# Altium schematic symbol library Connector.SchLib: 36 symbols
Pins are listed as number, name and electrical type; pins without a type are passive.

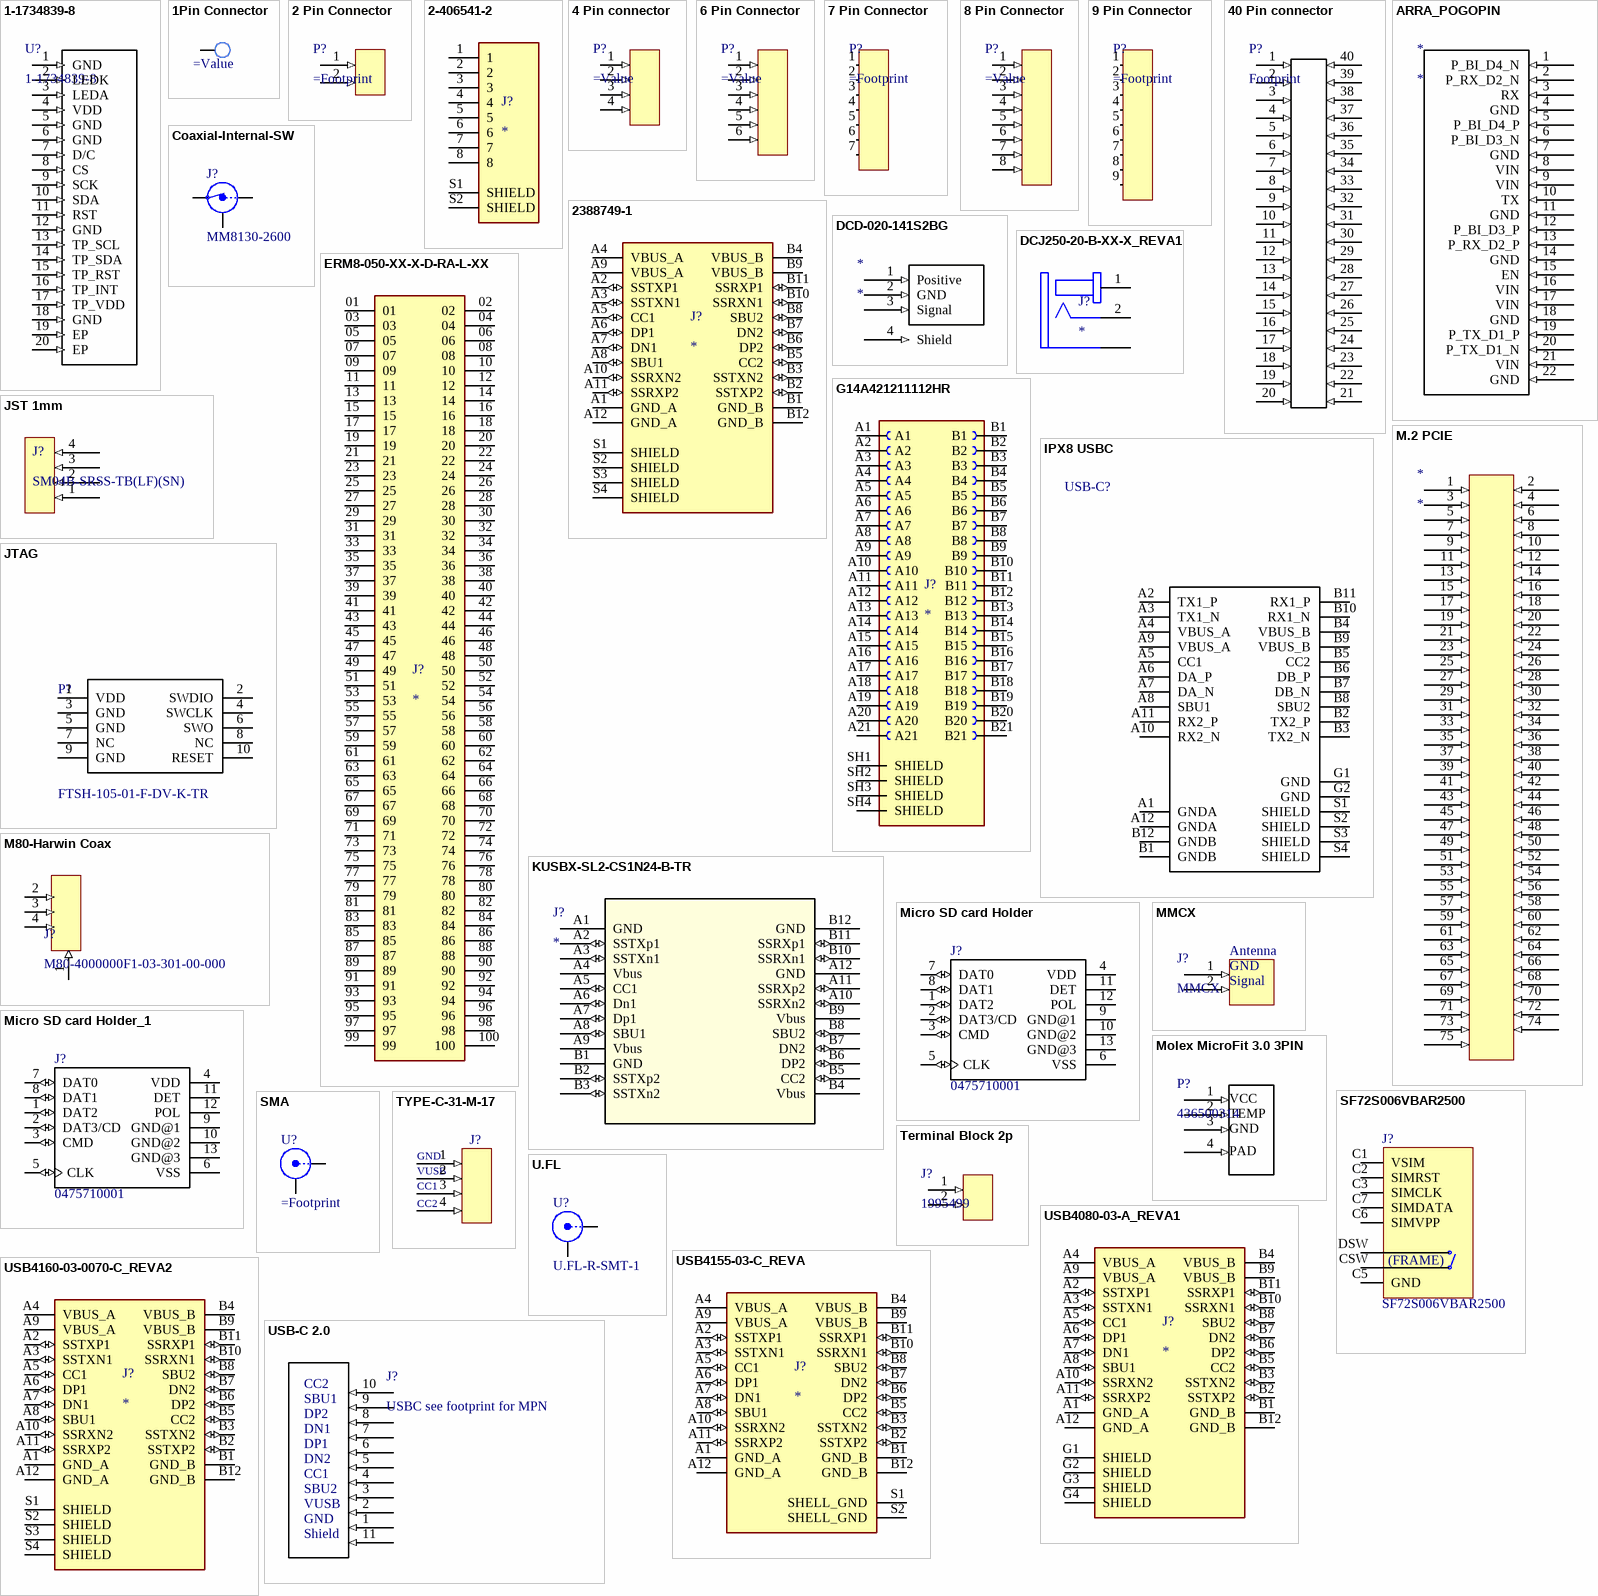
[diagram p0: symbols 1-1734839-8 to USB-C 2.0]

## 1-1734839-8
designator U?
FPC Connector 18pin
footprint 1-1734839-8 (Footprint not found)
footprint P169H002-CTP (FPC Connector and display)
pins: 1 GND (in), 2 LEDK (in), 3 LEDA (in), 4 VDD (in), 5 GND (in), 6 GND (in), 7 D/C (in), 8 CS (in), 9 SCK (in), 10 SDA (in), 11 RST (in), 12 GND (in), 13 TP_SCL (in), 14 TP_SDA (in), 15 TP_RST (in), 16 TP_INT (in), 17 TP_VDD (in), 18 GND (in), 19 EP (in), 20 EP (in)

## 1Pin Connector
designator P?
Check footprint for MPN
footprint 2032631334 (Molex 3.4mm mating pin 14mm)
footprint 2032631434 (Molex 3.4mm mating pin 12mm)
footprint H2182-05 (Male Vertical Throughboard Terminal Pin, Ø1.75mm 8.1mm)
footprint 2032634285 (8mm 200A pin)
footprint 2043180001 (8mm 200A pin)
footprint 2043180018
footprint 2043180006 (6mm)
footprint 2032630126 (Molex 6mm mating pin 14mm)
footprint 10-729398-241 (Amphenol Pin connector 2.4mm pins)
footprint 10-737620-001 (Amphenol single connector 5.7mm pins)
pins: 1

## 2 Pin Connector
designator P?
Yamaichi 12x2p
footprint YCP-TWD12ACX-02FPKZX-000X
footprint YCP-TWD09ACX-02FPGZX-000X
footprint AT15-2P-BM04 (2 POSITION STRAIGHT FLANGE MOUNT PCB RECEPTACLE, POTTED, TIN PLATED CONTACTS INCLUDED. COMPARABLE TO PN# DT15-2P-P010)
pins: 1 (in), 2 (in)

## 2-406541-2
designator J?
Conn RJ 45 F 8 POS 2.04mm Solder RA Thru-Hole 8 Terminal 1 Port Cat 5 Tray; MP: 2-406541-2; MF: TE Connectivity; Value: *; SnapEDA_Link: https://www.snapeda.com/parts/2-406541-2/TE%20Connectivity/view-part/2383013/?ref=snap; EU_RoHS_Compliance: Compliant; Price: None; Package: None; Check_prices: https://www.snapeda.com/parts/2-406541-2/TE%20Connectivity/view-part/2383013/?ref=eda; Purchase-URL: https://pricing.snapeda.com/search/part/2-406541-2/?ref=eda; Availability: In Stock
footprint TE_2-406541-2
footprint METZ_AJP92A8813 (Footprint not found)
pins: 1, 2, 3, 4, 5, 6, 7, 8, S1 SHIELD, S2 SHIELD

## 4 Pin connector
designator P?
Generic 4 pin connector, see footprint for MPN
footprint YCP-TWD09ACX-04FPEZX-000X
footprint WB06-DA041-K06 (Footprint not found)
footprint c-770149-1-c-3d (4 Pin drive power SMD)
footprint B04B-JWPF-SK-R (JST 2x5 Automotive)
footprint HCzz0015-4 (1.25mm vertical 4p picoblade)
pins: 1 (in), 2 (in), 3 (in), 4 (in)

## 6 Pin Connector
designator P?
Generic 6 pin connector, see footprint for MPN
footprint YCP-TWD09ACX-06FPCYX-000X
footprint B06B-JWPF-SK-R (JST 2x5 Automotive)
pins: 1 (in), 2 (in), 3 (in), 4 (in), 5 (in), 6 (in)

## 7 Pin Connector
designator P?
Yamaichi XXx7p, 12mm or 9mm T series connectors
footprint YCP-TWD12ACX-07FPEZX-000X
footprint YCP-TWD09ACX-07FPCYX-000X
pins: 1 (in), 2 (in), 3 (in), 4 (in), 5 (in), 6 (in), 7 (in)

## 8 Pin Connector
designator P?
Generic 8 pin connector, see footprint for MPN
footprint YCP-TWD12ACX-E8FPCYX-000X
footprint YCP-TWD12ACX-08FPEZX-000X
footprint B08B-JWPF-SK-R - duplicate (JST 2x5 Automotive)
footprint 5050040812 (0.8mm height mated board to board connector)
footprint HX 1.25-8PIN WSTP (https://www.lcsc.com/product-detail/Wire-To-Board-Connector_hanxia-HX-1-25-8PIN-WSTP_C19270006.html?s_z=n_jst%208pin)
footprint MXSH-1.0-08P-LT1-0-A (1mm 8 pin horisontal connector)
footprint MXSH-1.0-08P-WT1-0-A (1mm 8 pin horisontal connector)
pins: 1 (in), 2 (in), 3 (in), 4 (in), 5 (in), 6 (in), 7 (in), 8 (in)

## 9 Pin Connector
designator P?
Yamaichi 9x4p
footprint YCP-TWD09ACX-09FPCYX-000X
pins: 1 (in), 2 (in), 3 (in), 4 (in), 5 (in), 6 (in), 7 (in), 8 (in), 9 (in)

## 40 Pin connector
designator P?, comment Footprint
See footprint for MPN
footprint MX23A40NF1 (Footprint not found)
pins: 1 (in), 2 (in), 3 (in), 4 (in), 5 (in), 6 (in), 7 (in), 8 (in), 9 (in), 10 (in), 11 (in), 12 (in), 13 (in), 14 (in), 15 (in), 16 (in), 17 (in), 18 (in), 19 (in), 20 (in), 21 (in), 22 (in), 23 (in), 24 (in), 25 (in), 26 (in), 27 (in), 28 (in), 29 (in), 30 (in), 31 (in), 32 (in), 33 (in), 34 (in), 35 (in), 36 (in), 37 (in), 38 (in), 39 (in), 40 (in)

## 2388749-1
designator J?
USB-C (USB TYPE-C) USB 4.0 Receptacle Connector 24 Position Surface Mount, Right Angle; Through Hole; MF: TE Connectivity; MP: 2388749-1; Value: *; SnapEDA_Link: https://www.snapeda.com/parts/2388749-1/TE+Connectivity/view-part/?ref=snap; Purchase-URL: https://pricing.snapeda.com/search/part/2388749-1/?ref=eda; Availability: In Stock; Price: None; Package: None; Check_prices: https://www.snapeda.com/parts/2388749-1/TE+Connectivity/view-part/?ref=eda
footprint TE_2388749-1
footprint RJ45 footprint connections
pins: A1 GND_A (power), A2 SSTXP1 (io), A3 SSTXN1 (io), A4 VBUS_A (power), A5 CC1 (io), A6 DP1 (io), A7 DN1 (io), A8 SBU1 (io), A9 VBUS_A (power), A10 SSRXN2 (io), A11 SSRXP2 (io), A12 GND_A (power), B1 GND_B (power), B2 SSTXP2 (io), B3 SSTXN2 (io), B4 VBUS_B (power), B5 CC2 (io), B6 DP2 (io), B7 DN2 (io), B8 SBU2 (io), B9 VBUS_B (power), B10 SSRXN1 (io), B11 SSRXP1 (io), B12 GND_B (power), S1 SHIELD, S2 SHIELD, S3 SHIELD, S4 SHIELD

## ARRA_POGOPIN
designator *
footprint ARRA_POGOPIN (custom connector ARRA)
pins: 1 P_BI_D4_N (in), 2 P_RX_D2_N (in), 3 RX (in), 4 GND (in), 5 P_BI_D4_P (in), 6 P_BI_D3_N (in), 7 GND (in), 8 VIN (in), 9 VIN (in), 10 TX (in), 11 GND (in), 12 P_BI_D3_P (in), 13 P_RX_D2_P (in), 14 GND (in), 15 EN (in) "Enable", 16 VIN (in), 17 VIN (in), 18 GND (in), 19 P_TX_D1_P (in), 20 P_TX_D1_N (in), 21 VIN (in), 22 GND (in)

## Coaxial-Internal-SW
designator J?, comment MM8130-2600
Coaxial Connector with Switch; Manufacturer: Murata; Part number IPS: N.A.; Artikkelnr Noca: 55029011; Part Number: MM8130-2600; Manufacturer Part Number: MM8130-2600; LatestRevisionDate: 2014-04-24; Pin Count: 3; Publisher: Nordic Semiconductor; Published: 2014-04-24; Value: MM8130-2600; Note: *; Footprint Doc: COAXIAL-SWF; ComponentLink1URL: *; ComponentLink1Description: Datasheet; ComponentLink2URL: *; ComponentLink2Description: Supplier link; HelpURL: http://www.murata.com/products/catalog/pdf/o33e.pdf; Supplier 1: Digi-Key; Supplier Part Number 1: 490-4981-1-ND; Supplier 2: Mouser; Supplier Part Number 2: 81-MM8130-2600RA2
footprint COAXIAL-SWF
pins: 1 IN, 2 Shield, 3 OUT

## DCD-020-141S2BG
designator *
footprint DCD-020-141S2BG
footprint DCD-020-141S2BG - NO S
pins: 1 Positive (in), 2 GND (in), 3 Signal (in), 4 Shield (in)

## DCJ250-20-B-XX-X_REVA1
designator J?
Power Barrel Connector Jack 2.55mm ID (0.100), 5.50mm OD (0.217) Through Hole, Right Angle; MP: DCJ250-20-B-K1-A; MF: Global Connector Technology; Availability: Bad; Package: None; Check_prices: https://www.snapeda.com/parts/DCJ250-20-B-K1-A/Global%20Connector%20Technology/view-part/813035/?ref=eda; Price: None; SnapEDA_Link: https://www.snapeda.com/parts/DCJ250-20-B-K1-A/Global%20Connector%20Technology/view-part/813035/?ref=snap; Value: *
footprint GCT_DCJ250-20-B-XX-X_REVA1 (Footprint not found)
pins: 1, 2, 3_1 3, 3_2 3

## ERM8-050-XX-X-D-RA-L-XX
designator J?
100 Position Connector Header, Center Strip Contacts Surface Mount, Right Angle Gold; MF: Samtec; MP: ERM8-050-03-L-D-RA-L-TR; Purchase-URL: https://pricing.snapeda.com/search/part/ERM8-050-03-L-D-RA-L-TR/?ref=eda; Package: None; Availability: Bad; Value: *; Check_prices: https://www.snapeda.com/parts/ERM8-050-03-L-D-RA-L-TR/Samtec/view-part/3532294/?ref=eda; SnapEDA_Link: https://www.snapeda.com/parts/ERM8-050-03-L-D-RA-L-TR/Samtec/view-part/3532294/?ref=snap; Price: None
footprint SAMTEC_ERM8-050-XX-X-D-RA-L-XX
pins: 01, 02, 03, 04, 05, 06, 07, 08, 09, 10, 11, 12, 13, 14, 15, 16, 17, 18, 19, 20, 21, 22, 23, 24, 25, 26, 27, 28, 29, 30, 31, 32, 33, 34, 35, 36, 37, 38, 39, 40, 41, 42, 43, 44, 45, 46, 47, 48, 49, 50, 51, 52, 53, 54, 55, 56, 57, 58, 59, 60, 61, 62, 63, 64, 65, 66, 67, 68, 69, 70, 71, 72, 73, 74, 75, 76, 77, 78, 79, 80, 81, 82, 83, 84, 85, 86, 87, 88, 89, 90, 91, 92, 93, 94, 95, 96, 97, 98, 99, 100

## G14A421211112HR
designator J?
MF: Amphenol Commercial Products; MP: G14A421211112HR; Package: None; Price: None; Value: *; Availability: Unavailable
footprint AMPHENOL_G14A421211112HR
pins: A1, A2, A3, A4, A5, A6, A7, A8, A9, A10, A11, A12, A13, A14, A15, A16, A17, A18, A19, A20, A21, B1, B2, B3, B4, B5, B6, B7, B8, B9, B10, B11, B12, B13, B14, B15, B16, B17, B18, B19, B20, B21, SH1 SHIELD, SH2 SHIELD, SH3 SHIELD, SH4 SHIELD

## IPX8 USBC
designator USB-C?, comment 2305018-2  (value not drawn)
TYPE C Right Angle Sealable SMT IPX8 3.1 GEN 2 Wire to Board USB; MF: TE Connectivity; TE_purchase_URL: https://www.te.com/usa-en/product-2305018-2.html?te_bu=Cor&te_type=disp&te_campaign=seda_glo_cor-seda-global-disp-prtnr-fy19-seda-model-bom-cta_sma-317_1&elqCampaignId=32493; SnapEDA_Link: https://www.snapeda.com/parts/2305018-2/TE%20Connectivity%20AMP%20Connectors/view-part/?ref=snap; Availability: Unavailable; Package: None; Price: None; MP: 2305018-2; Value: *
footprint TE_2305018-2_2305018-2(Primary)
pins: A1 GNDA, A2 TX1_P, A3 TX1_N, A4 VBUS_A, A5 CC1, A6 DA_P, A7 DA_N, A8 SBU1, A9 VBUS_A, A10 RX2_N, A11 RX2_P, A12 GNDA, B1 GNDB, B2 TX2_P, B3 TX2_N, B4 VBUS_B, B5 CC2, B6 DB_P, B7 DB_N, B8 SBU2, B9 VBUS_B, B10 RX1_N, B11 RX1_P, B12 GNDB, G1 GND (power), G2 GND (power), S1 SHIELD (power), S2 SHIELD (power), S3 SHIELD (power), S4 SHIELD (power)

## JST 1mm
designator J?, comment SM04B-SRSS-TB(LF)(SN)
JST 4pin 1mm pitch; ComponentLink1Description: Digikey; ComponentLink1URL: https://www.digikey.com/product-detail/en/jst-sales-america-inc/SM04B-SRSS-TB-LF-SN/455-1804-1-ND/926875; ComponentLink2Description: Qwiic; ComponentLink2URL: https://www.sparkfun.com/products/14417; Supplier 1: Arrow; Supplier 2: Mouser; Supplier Part Number 1: SM04B-SRSS-TB(LF)(SN); Supplier Part Number 2: 474-PRT-14417
footprint jst 1mm
pins: 1 (in), 2 (in), 3 (in), 4 (in)

## JTAG
designator P?, comment FTSH-105-01-F-DV-K-TR
Pin Header 2x5, 1.27mm (50mil), SMD, Keying Shroud; Part Number: Pin Header 2x5 SMD, 1.27mm, KS; Manufacturer: W-CON; Manufacturer Part Number: 3132-10MS0BK00R1; Part number IPS: N.A.; Artikkelnr Noca: 55010009; Footprint Doc: HDR_2x5-SMD-1.27mm; LatestRevisionDate: 2016-04-21; Pin Count: 10; Publisher: Nordic Semiconductor; Published: 2016-01-22; Value: Pin Header 2x5, 1.27mm; Note: *; ComponentLink1URL: *; ComponentLink1Description: Datasheet; ComponentLink2URL: *; ComponentLink2Description: Supplier link; HelpURL: \\hizz\pro\app9717\Datasheet\connectores\W-CON\3132-XXMXXBK00XX.pdf; Supplier 1: Cabcon; Supplier Part Number 1: 3132-10MS0BK00R1; Supplier 2: Samtec; Supplier Part Number 2: FTSH-105-01-F-DV-K
footprint HDR_2x5-SMD-1.27mm-K_2
footprint TC2050-IDC-NLFP
footprint JTAG Pins 6 (TC2030-ALT-NL)
pins: 1 VDD, 2 SWDIO, 3 GND, 4 SWCLK, 5 GND, 6 SWO, 7 NC, 8 NC, 9 GND, 10 RESET

## KUSBX-SL2-CS1N24-B-TR
designator J?
No Description Available; Mfr_Name: KYCON, INC.; RefDes: RefDes; Type: Type
footprint KUSBX-SL2-CS1N24-B-TR_KYC
pins: A1 GND (power), A2 SSTXp1 (io), A3 SSTXn1 (io), A4 Vbus (power), A5 CC1 (io), A6 Dn1 (io), A7 Dp1 (io), A8 SBU1 (io), A9 Vbus (power), A10 SSRXn2 (io), A11 SSRXp2 (io), A12 GND (power), B1 GND (power), B2 SSTXp2 (io), B3 SSTXn2 (io), B4 Vbus (power), B5 CC2 (io), B6 DP2 (io), B7 DN2 (io), B8 SBU2 (io), B9 Vbus (power), B10 SSRXn1 (io), B11 SSRXp1 (io), B12 GND (power)

## M80-Harwin Coax
designator J?, comment M80-4000000F1-03-301-00-000
footprint M80-4000000F1-03-301-00-000 (Datamate harwin coax 3)
pins: 1 (in), 2 (in), 3 (in), 4 (in)

## M.2 PCIE
designator *
footprint M.2 PCIE
pins: 1 (in), 2 (in), 3 (in), 4 (in), 5 (in), 6 (in), 7 (in), 8 (in), 9 (in), 10 (in), 11 (in), 12 (in), 13 (in), 14 (in), 15 (in), 16 (in), 17 (in), 18 (in), 19 (in), 20 (in), 21 (in), 22 (in), 23 (in), 24 (in), 25 (in), 26 (in), 27 (in), 28 (in), 29 (in), 30 (in), 31 (in), 32 (in), 33 (in), 34 (in), 35 (in), 36 (in), 37 (in), 38 (in), 39 (in), 40 (in), 41 (in), 42 (in), 43 (in), 44 (in), 45 (in), 46 (in), 47 (in), 48 (in), 49 (in), 50 (in), 51 (in), 52 (in), 53 (in), 54 (in), 55 (in), 56 (in), 57 (in), 58 (in), 59 (in), 60 (in), 61 (in), 62 (in), 63 (in), 64 (in), 65 (in), 66 (in), 67 (in), 68 (in), 69 (in), 70 (in), 71 (in), 72 (in), 73 (in), 74 (in), 75 (in)

## Micro SD card Holder
designator J?, comment 0475710001
Micro SD card Holder / 9 _8 + 1_ Position Card Connector Secure Digital - microSDâ„¢ Surface Mount, Right Angle Gold; MF: Molex; SnapEDA_Link: https://www.snapeda.com/parts/0475710001/Molex/view-part/424368/?ref=snap; Availability: Unavailable; MP: 0475710001; Package: None; Price: None; Value: *; Supplier 1: Digi-Key; Supplier Part Number 1: WM9731CT-ND
footprint MOLEX_0475710001 (Footprint not found)
pins: 1 DAT2 (io), 2 DAT3/CD (io), 3 CMD (io), 4 VDD (power), 5 CLK (io), 6 VSS (power), 7 DAT0 (io), 8 DAT1 (io), 9 GND@1 (power), 10 GND@2 (power), 11 DET, 12 POL, 13 GND@3 (power)

## Micro SD card Holder_1
designator J?, comment 0475710001
Micro SD card Holder / 9 _8 + 1_ Position Card Connector Secure Digital - microSDâ„¢ Surface Mount, Right Angle Gold; MF: Molex; SnapEDA_Link: https://www.snapeda.com/parts/0475710001/Molex/view-part/424368/?ref=snap; Availability: Unavailable; MP: 0475710001; Package: None; Price: None; Value: *; Supplier 1: Digi-Key; Supplier Part Number 1: WM9731CT-ND
footprint MOLEX_0475710001 (Footprint not found)
pins: 1 DAT2 (io), 2 DAT3/CD (io), 3 CMD (io), 4 VDD (power), 5 CLK (io), 6 VSS (power), 7 DAT0 (io), 8 DAT1 (io), 9 GND@1 (power), 10 GND@2 (power), 11 DET, 12 POL, 13 GND@3 (power)

## MMCX
designator J?
85_MMCX-S50-0-55/119_OM; ComponentLink1Description: Datasheet; ComponentLink1URL: https://ecatalog.hubersuhner.com/media/documents/outline1/en/pdf/84021646; Supplier 1: Mouser; Supplier Part Number 1: 455-5MMCXS50055119OM
footprint MMCX
pins: 1 (in), 2 (in)
text: Antenna; GND; Signal

## Molex MicroFit 3.0 3PIN
designator P?, comment 436500314
Molex microfit SMD 3 pin 436500314
footprint MicroFit3.0 3PIN
pins: 1 (in), 2 (in), 3 (in), 4 (in)
text: VCC; TEMP; GND; PAD

## SF72S006VBAR2500
designator J?
n 8 (6 + 2) Position Card Connector NANO SIM Surface Mount, Right Angle Gold; Manufacturer: JAE; Artikkelnr Noca: N.A.; Part Number: SF72S006VBAR2500; Manufacturer Part Number: SF72S006VBAR2500; Footprint Doc: SF72S006VBAR2500; LatestRevisionDate: 2016-09-09; Pin Count: 8; Publisher: Nordic Semiconductor; Published: 2016-09-09; Value: SF72S006VBAR2500; Note: *; Part number IPS: N.A.; ComponentLink1URL: *; ComponentLink1Description: Datasheet; ComponentLink2URL: *; ComponentLink2Description: Supplier link; HelpURL: http://jae-connectors.com/en/pdf/MB-0282-1E_SF72.pdf; Supplier 1: Digi-Key; Supplier Part Number 1: 670-2799-1-ND; Supplier 2: Mouser; Supplier Part Number 2: 656-SF72S006VBAR2500
footprint SF72S006VBAR2500
pins: 0 GND hidden to GND, C1 VSIM, C2 SIMRST, C3 SIMCLK, C5 GND, C6 SIMVPP, C7 SIMDATA, CSW, DSW
text: (FRAME)

## SMA
designator U?
SMA, SMD version; Part Number: U.FL-R-SMT-1; Manufacturer: Hirose Electric Co Ltd; Value: U.FL-R-SMT-1; Artikkelnr Noca: N.A.; Manufacturer Part Number: U.FL-R-SMT-1; ComponentLink1URL: https://media.digikey.com/pdf/Data%20Sheets/Hirose%20PDFs/UFL%20Series.pdf; ComponentLink1Description: Datasheet; ComponentLink2URL: *; ComponentLink2Description: Supplier link; HelpURL: *; Footprint Doc: COAXIAL RF U.FL-R-SMT-1; LatestRevisionDate: 2018-05-07; Pin Count: 3; Publisher: Nordic Semiconductor; Published: 2018-05-07; Note: *; Supplier 1: Digi-Key; Supplier Part Number 1: H11891DKR-ND; Supplier 2: *; Supplier Part Number 2: *; Part number IPS: N.A.
footprint 292-CM (50 Ohm SMA 2.92 Jack, Compression Mount)
footprint SMP (SMP-MSLD-PCS-20)
pins: 1 X, 2 Y

## Terminal Block 2p
designator J?, comment 1995499
1952267‎ For mating, 1995499 for pcb connector
footprint 1995499 (Terminal block 2 pin)
pins: 1 (in), 2 (in)

## TYPE-C-31-M-17
designator J?  (value not drawn)
Usb C power connector; Manufacturer Part Number: TYPE-C-31-M-17
footprint TYPE-C-31-M-17
pins: 1 (in), 2 (in), 3 (in), 4 (in)
text: GND; VUSB; CC1; CC2

## U.FL
designator U?, comment U.FL-R-SMT-1
ONN U.FL RCPT STR 50 OHM SMD; Manufacturer: Hirose Electric Co Ltd; Artikkelnr Noca: N.A.; Part Number: U.FL-R-SMT-1; Manufacturer Part Number: U.FL-R-SMT-1; ComponentLink1URL: https://media.digikey.com/pdf/Data%20Sheets/Hirose%20PDFs/UFL%20Series.pdf; ComponentLink1Description: Datasheet; ComponentLink2URL: *; ComponentLink2Description: Supplier link; HelpURL: *; Footprint Doc: COAXIAL RF U.FL-R-SMT-1; LatestRevisionDate: 2018-05-07; Pin Count: 3; Publisher: Nordic Semiconductor; Published: 2018-05-07; Value: U.FL-R-SMT-1; Note: *; Supplier 1: Digi-Key; Supplier Part Number 1: H11891DKR-ND; Supplier 2: *; Supplier Part Number 2: *; Part number IPS: N.A.
footprint COAXIAL RF U.FL-R-SMT-1
pins: 1 X, 2 Y

## USB4080-03-A_REVA1
designator J?
USB-C (USB TYPE-C) USB 3.2 Gen 2 (USB 3.1 Gen 2, Superspeed + (USB 3.1)) Receptacle Connector 24 Position Surface Mount, Right Angle; Through Hole; MF: Global Connector Technology; MP: USB4080-03-A; Package: None; Price: None; Value: *; SnapEDA_Link: https://www.snapeda.com/parts/USB4080-03-A/Global+Connector+Technology/view-part/?ref=snap; Availability: In Stock; Check_prices: https://www.snapeda.com/parts/USB4080-03-A/Global+Connector+Technology/view-part/?ref=eda
footprint GCT_USB4080-03-A_REVA1
pins: A1 GND_A (power), A2 SSTXP1 (io), A3 SSTXN1 (io), A4 VBUS_A (power), A5 CC1 (io), A6 DP1 (io), A7 DN1 (io), A8 SBU1 (io), A9 VBUS_A (power), A10 SSRXN2 (io), A11 SSRXP2 (io), A12 GND_A (power), B1 GND_B (power), B2 SSTXP2 (io), B3 SSTXN2 (io), B4 VBUS_B (power), B5 CC2 (io), B6 DP2 (io), B7 DN2 (io), B8 SBU2 (io), B9 VBUS_B (power), B10 SSRXN1 (io), B11 SSRXP1 (io), B12 GND_B (power), G1 SHIELD, G2 SHIELD, G3 SHIELD, G4 SHIELD

## USB4155-03-C_REVA
designator J?
MP: USB4155-03-C_REVA; Package: None; Price: None; Availability: Unavailable; Value: *
footprint GCT_USB4155-03-C_REVA
pins: A1 GND_A (power), A2 SSTXP1 (io), A3 SSTXN1 (io), A4 VBUS_A (power), A5 CC1 (io), A6 DP1 (io), A7 DN1 (io), A8 SBU1 (io), A9 VBUS_A (power), A10 SSRXN2 (io), A11 SSRXP2 (io), A12 GND_A (power), B1 GND_B (power), B2 SSTXP2 (io), B3 SSTXN2 (io), B4 VBUS_B (power), B5 CC2 (io), B6 DP2 (io), B7 DN2 (io), B8 SBU2 (io), B9 VBUS_B (power), B10 SSRXN1 (io), B11 SSRXP1 (io), B12 GND_B (power), S1 SHELL_GND (power), S2 SHELL_GND (power)

## USB4160-03-0070-C_REVA2
designator J?
MP: USB4160-03-0070-C_REVA2; Price: None; Value: *; Package: None; Availability: Unavailable
footprint GCT_USB4160-03-0070-C_REVA2
pins: A1 GND_A (power), A2 SSTXP1 (io), A3 SSTXN1 (io), A4 VBUS_A (power), A5 CC1 (io), A6 DP1 (io), A7 DN1 (io), A8 SBU1 (io), A9 VBUS_A (power), A10 SSRXN2 (io), A11 SSRXP2 (io), A12 GND_A (power), B1 GND_B (power), B2 SSTXP2 (io), B3 SSTXN2 (io), B4 VBUS_B (power), B5 CC2 (io), B6 DP2 (io), B7 DN2 (io), B8 SBU2 (io), B9 VBUS_B (power), B10 SSRXN1 (io), B11 SSRXP1 (io), B12 GND_B (power), S1 SHIELD, S2 SHIELD, S3 SHIELD, S4 SHIELD

## USB-C 2.0
designator J?, comment USBC see footprint for MPN
USB C connector; ComponentLink1Description: LCSC; ComponentLink1URL: https://lcsc.com/product-detail/USB-Connectors_Korean-Hroparts-Elec-TYPE-C-31-M-12_C165948.html
footprint TYPE-C-31-M-12
footprint 2340901-1 (Te Flush mounted USB-C)
pins: 1 (in), 2 (in), 3 (in), 4 (in), 5 (in), 6 (in), 7 (in), 8 (in), 9 (in), 10 (in), 11 (in)
text: CC2; SBU1; DP2; DN1; DP1; DN2; CC1; SBU2; VUSB; GND; Shield